# EAGLE library part SN74V263 (library Radicon)
SN74V263-EP, SN74V273-EP, SN74V283-EP, SN74V293-EP 8192 × 18, 16384 × 18, 32768 × 18, 65536 × 18 3.3-V CMOS FIRST-IN, FIRST-OUT MEMORIES
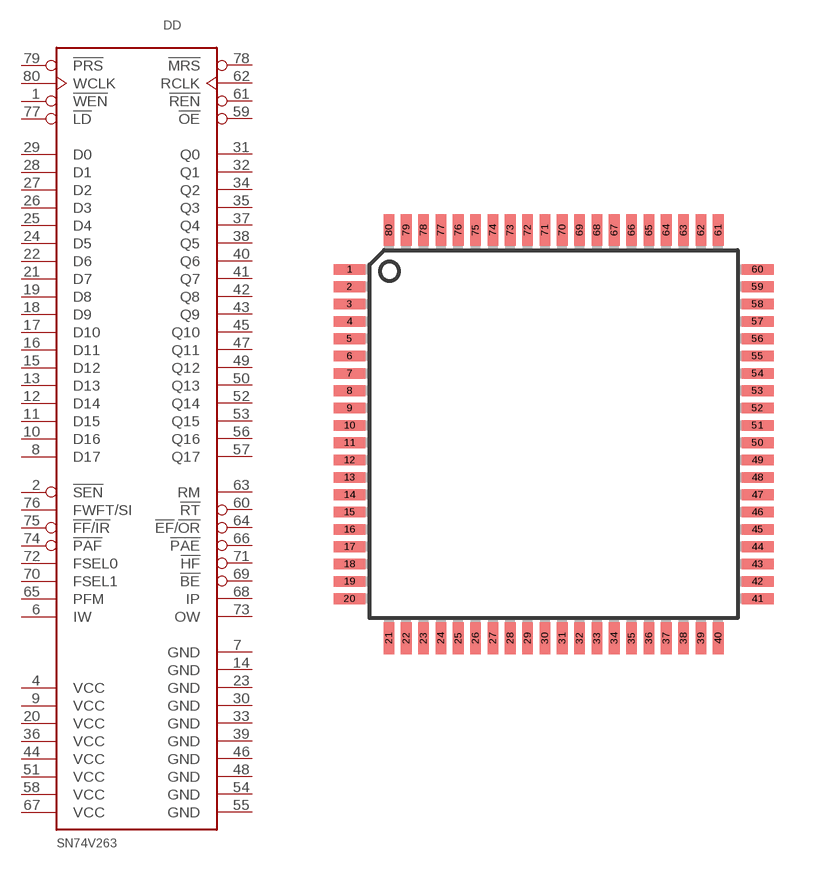
[diagram p48: symbol with the pads of TQFP80-917; footprint TQFP80-917]

Designator prefix DD

## SN74V263  [TQFP80-917]
1  !WEN
2  !SEN
4  VCC
6  IW
7  GND
8  D17
9  VCC
10  D16
11  D15
12  D14
13  D13
14  GND
15  D12
16  D11
17  D10
18  D9
19  D8
20  VCC
21  D7
22  D6
23  GND
24  D5
25  D4
26  D3
27  D2
28  D1
29  D0
30  GND
31  Q0
32  Q1
33  GND
34  Q2
35  Q3
36  VCC
37  Q4
38  Q5
39  GND
40  Q6
41  Q7
42  Q8
43  Q9
44  VCC
45  Q10
46  GND
47  Q11
48  GND
49  Q12
50  Q13
51  VCC
52  Q14
53  Q15
54  GND
55  GND
56  Q16
57  Q17
58  VCC
59  !OE
60  !RT
61  !REN
62  RCLK
63  RM
64  !EF!/!OR!
65  PFM
66  !PAE
67  VCC
68  IP
69  !BE
70  FSEL1
71  !HF
72  FSEL0
73  OW
74  !PAF
75  !FF!/!IR!
76  FWFT/SI
77  !LD
78  !MRS
79  !PRS
80  WCLK

## Footprint TQFP80-917 (pad centres in mm)
Thin Quad Flat Pack
smd 1.2 x 0.4: 1 -7.65,6.175; 2 -7.65,5.525; 3 -7.65,4.875; 4 -7.65,4.225; 5 -7.65,3.575; 6 -7.65,2.925; 7 -7.65,2.275; 8 -7.65,1.625; 9 -7.65,0.975; 10 -7.65,0.325; 11 -7.65,-0.325; 12 -7.65,-0.975; 13 -7.65,-1.625; 14 -7.65,-2.275; 15 -7.65,-2.925; 16 -7.65,-3.575; 17 -7.65,-4.225; 18 -7.65,-4.875; 19 -7.65,-5.525; 20 -7.65,-6.175; 41 7.65,-6.175; 42 7.65,-5.525; 43 7.65,-4.875; 44 7.65,-4.225; 45 7.65,-3.575; 46 7.65,-2.925; 47 7.65,-2.275; 48 7.65,-1.625; 49 7.65,-0.975; 50 7.65,-0.325; 51 7.65,0.325; 52 7.65,0.975; 53 7.65,1.625; 54 7.65,2.275; 55 7.65,2.925; 56 7.65,3.575; 57 7.65,4.225; 58 7.65,4.875; 59 7.65,5.525; 60 7.65,6.175
smd 0.4 x 1.2: 21 -6.175,-7.65; 22 -5.525,-7.65; 23 -4.875,-7.65; 24 -4.225,-7.65; 25 -3.575,-7.65; 26 -2.925,-7.65; 27 -2.275,-7.65; 28 -1.625,-7.65; 29 -0.975,-7.65; 30 -0.325,-7.65; 31 0.325,-7.65; 32 0.975,-7.65; 33 1.625,-7.65; 34 2.275,-7.65; 35 2.925,-7.65; 36 3.575,-7.65; 37 4.225,-7.65; 38 4.875,-7.65; 39 5.525,-7.65; 40 6.175,-7.65; 61 6.175,7.65; 62 5.525,7.65; 63 4.875,7.65; 64 4.225,7.65; 65 3.575,7.65; 66 2.925,7.65; 67 2.275,7.65; 68 1.625,7.65; 69 0.975,7.65; 70 0.325,7.65; 71 -0.325,7.65; 72 -0.975,7.65; 73 -1.625,7.65; 74 -2.275,7.65; 75 -2.925,7.65; 76 -3.575,7.65; 77 -4.225,7.65; 78 -4.875,7.65; 79 -5.525,7.65; 80 -6.175,7.65